# EAGLE library part MMA7260QT (library freescale-semi)
Accelerometer Micromachined , ±1.5g - 6g Three Axis Low-g
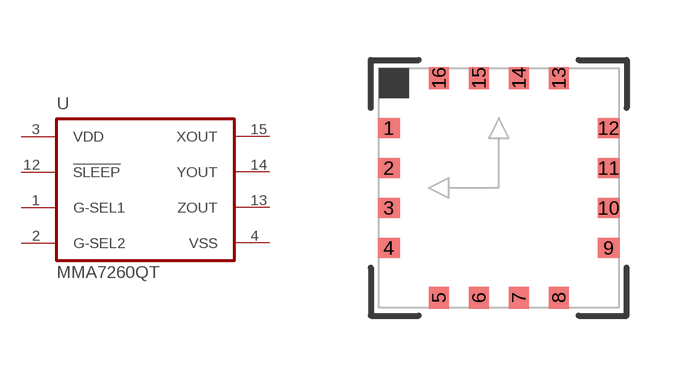
[diagram p4: symbol with the pads of QFN16-1622-02; footprint QFN16-1622-02]

Designator prefix U

## MMA7260QT  [QFN16-1622-02]
1  G-SEL1  in
2  G-SEL2  in
3  VDD  pwr
4  VSS  pwr
12  !SLEEP!  in
13  ZOUT  out
14  YOUT  out
15  XOUT  out

## Footprint QFN16-1622-02 (pad centres in mm)
QFN 16 (CASE 1622-02) body 6x6mm, pitch 1.0mm NO COPPER UNDERNEATH PACKAGE!
smd 0.55 x 0.5: 1 -2.75,1.5; 2 -2.75,0.5; 3 -2.75,-0.5; 4 -2.75,-1.5; 9 2.75,-1.5; 10 2.75,-0.5; 11 2.75,0.5; 12 2.75,1.5
smd 0.5 x 0.55: 5 -1.5,-2.75; 6 -0.5,-2.75; 7 0.5,-2.75; 8 1.5,-2.75; 13 1.5,2.75; 14 0.5,2.75; 15 -0.5,2.75; 16 -1.5,2.75